# Altium footprint library PDQE20Q24S12D.PcbLib: 1 footprints
Each footprint in its own frame and in the unit in brackets; x right, y up, seen from the top. Pads: shape width x height; smd on the part's side, far side on the other; paste and mask are expansions set on the pad; w line width, h text height; cw(c..) or ccw(c..) is an arc to the next point about the centre after c.
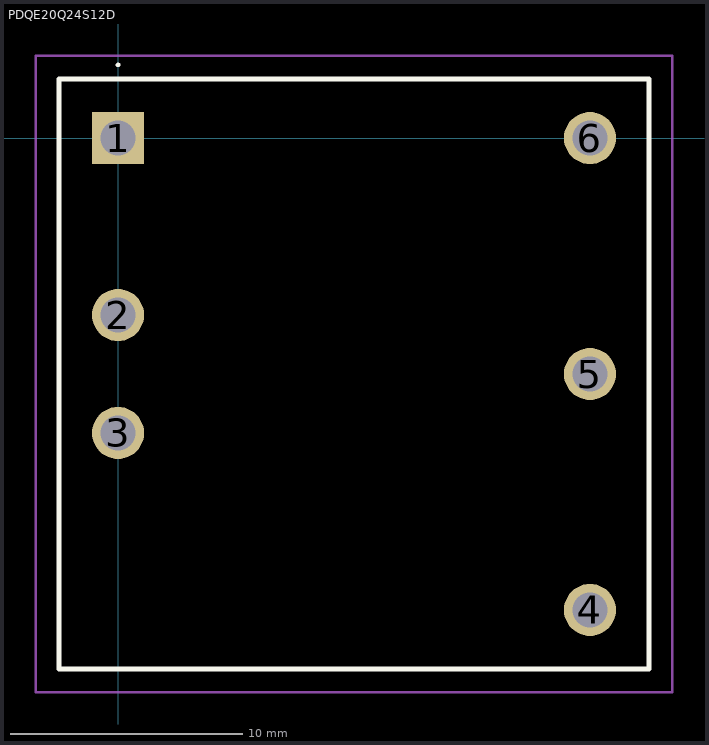
[diagram p0: the footprint, top view; thin cyan lines are the x and y axes]

## PDQE20Q24S12D [mm]
pads (6):
  rect 2.25x2.25 hole 1.5: 1(0,0)
  round 2.25 hole 1.5: 2(0,-7.62) 3(0,-12.7) 4(20.32,-20.32) 5(20.32,-10.16) 6(20.32,0)
Top Overlay:
  lines w0.1: 0,3.1 cw(c0,3.15) 0,3.2 ; 0,3.1 0,3.1 ; 0,3.1 ccw(c0,3.15) 0,3.2 ; 0,3.2 0,3.2
  lines w0.2: -2.54,-22.86 22.86,-22.86 22.86,2.54 -2.54,2.54 -2.54,-22.86
Mechanical 15:
  lines w0.1: -2.54,-22.86 22.86,-22.86 22.86,2.54 -2.54,2.54 -2.54,-22.86
Mechanical 20:
  lines w0.1: -3.54,-23.86 23.86,-23.86 23.86,3.54 -3.54,3.54 -3.54,-23.86